# EAGLE library part LM43601 (library SureDSP)
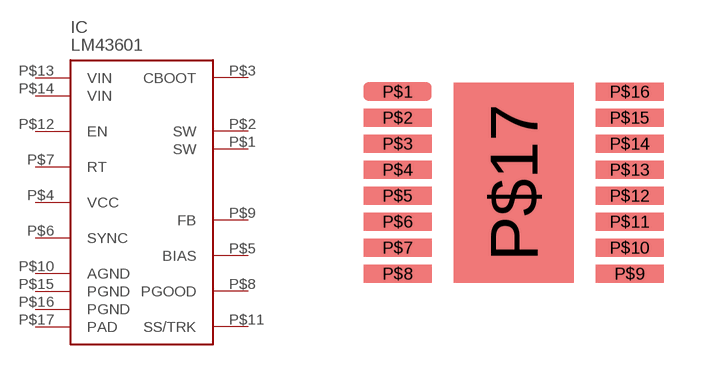
[diagram p5: symbol with the pads of LM43601; footprint LM43601]

Designator prefix IC

## LM43601  [LM43601]
P$1  SW
P$2  SW
P$3  CBOOT
P$4  VCC
P$5  BIAS
P$6  SYNC
P$7  RT
P$8  PGOOD
P$9  FB
P$10  AGND
P$11  SS/TRK
P$12  EN
P$13  VIN
P$14  VIN
P$15  PGND
P$16  PGND
P$17  PAD

## Footprint LM43601 (pad centres in mm)
smd 1.7 x 0.45: P$1 -2.9,2.275; P$2 -2.9,1.625; P$3 -2.9,0.975; P$4 -2.9,0.325; P$5 -2.9,-0.325; P$6 -2.9,-0.975; P$7 -2.9,-1.625; P$8 -2.9,-2.275; P$9 2.9,-2.275; P$10 2.9,-1.625; P$11 2.9,-0.975; P$12 2.9,-0.325; P$13 2.9,0.325; P$14 2.9,0.975; P$15 2.9,1.625; P$16 2.9,2.275
smd 3 x 5: P$17 0,0